# EAGLE library part W25Q32FV (library derek)
W25Q32FV 32Mb (4MB) Serial Flash Memory The W25Q32FV support the standard Serial Peripheral Interface (SPI), Dual/Quad I/O SPI as well as 2-clocks instruction cycle Quad Peripheral Interface (QPI). 104MHz, SPI, 8-SOIC-EIAJ Datasheet <http://www.winbond.com/resource-files/w25q32fv%20revh%20091613.pdf> SparkFun Products SparkFun Blynk Board - ESP8266 <https://www.sparkfun.com/products/13794> (WRL-13794)
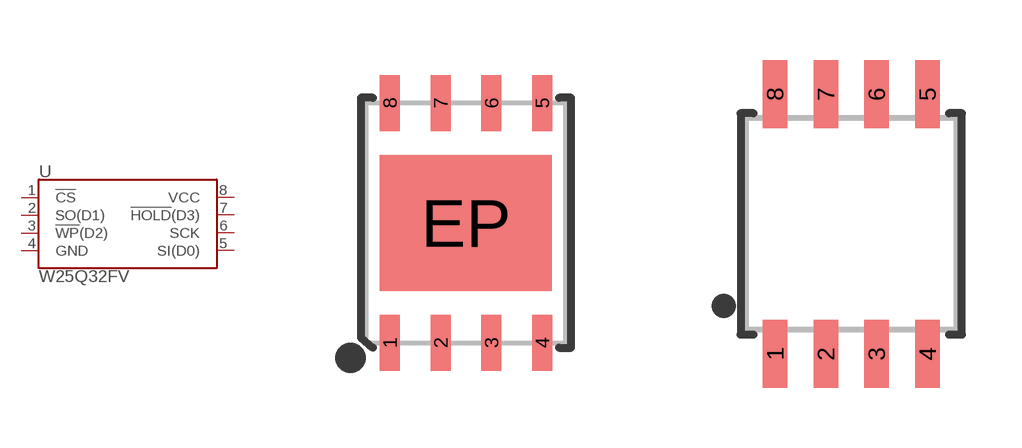
[diagram p4: symbol with the pads of WSON8-6X5MM; footprints WSON8-6X5MM, SOIC-8]

Designator prefix U

## W25Q32FVZP (PROD_ID: NA-XXXXX; VALUE: W25Q32FV)  [WSON8-6X5MM]
1  !CS!
2  SO(D1)
3  !WP!(D2)
4  GND
5  SI(D0)
6  SCK
7  !HOLD!(D3)
8  VCC

## W25Q32FVSS (PROD_ID: IC-13229; VALUE: W25Q32FV)  [SOIC-8]
Pads as for WSON8-6X5MM

## Footprint WSON8-6X5MM (pad centres in mm)
smd 0.5 x 1.4: 1 -1.905,-3; 2 -0.635,-3; 3 0.635,-3; 4 1.905,-3; 5 1.905,3; 6 0.635,3; 7 -0.635,3; 8 -1.905,3
smd 4.3 x 3.4: EP 0,0

## Footprint SOIC-8 (pad centres in mm)
8-Pin SOIC 208-mil
smd 0.61 x 1.702: 1 -1.905,-3.251; 2 -0.635,-3.251; 3 0.635,-3.251; 4 1.905,-3.251; 5 1.905,3.251; 6 0.635,3.251; 7 -0.635,3.251; 8 -1.905,3.251